# Altium schematic symbol library Transceiver.SchLib: 6 symbols
Pins are listed as number, name and electrical type; pins without a type are passive.

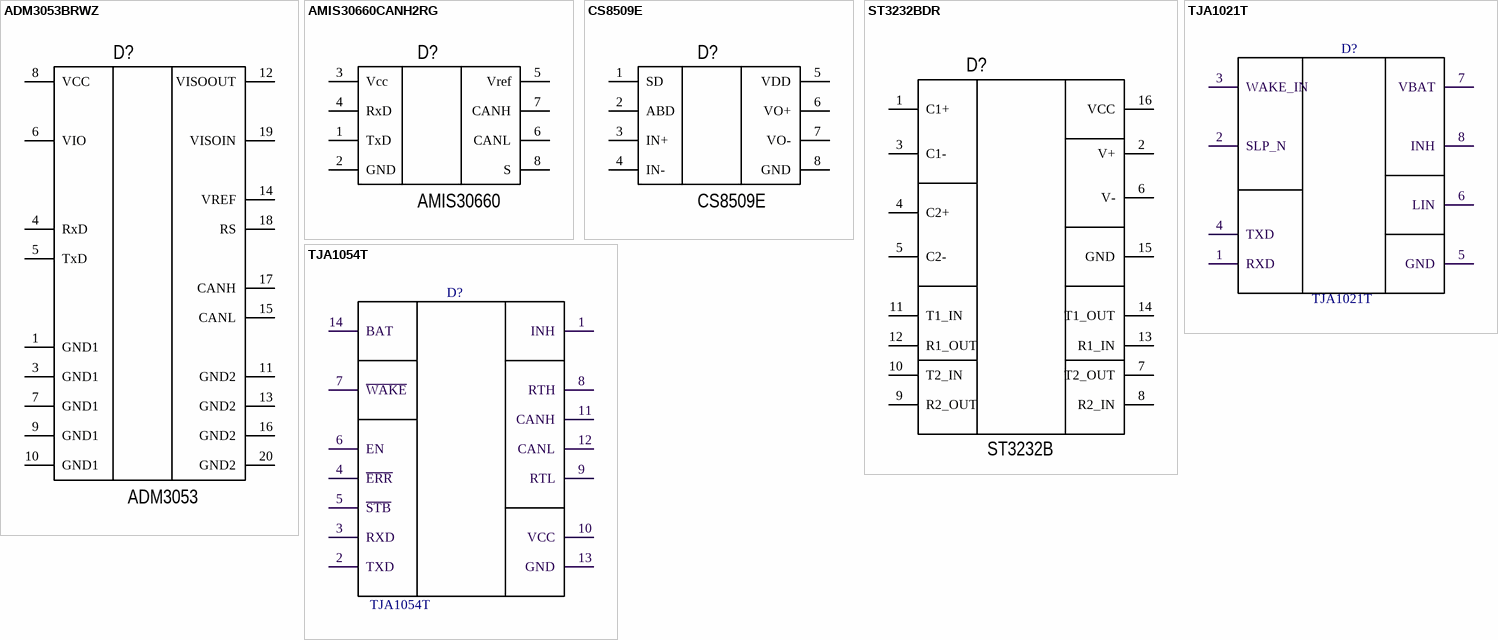
[diagram p0: symbols ADM3053BRWZ to TJA1054T]

## ADM3053BRWZ
designator D?, comment ADM3053
1/1 Transceiver, Isolated - CAN 20-SOIC; Manufacture: Analog Devices Inc.; Model: ADM3053BRWZ; Name: CAN трансивер; Case: 20-SOIC; HelpURL: https://www.digikey.com/en/products/detail/analog-devices-inc/ADM3053BRWZ/2709332; Value: ADM3053
footprint 20-SOIC (0.295", 7.50mm Width)
pins: 1 GND1, 3 GND1, 4 RxD, 5 TxD, 6 VIO, 7 GND1, 8 VCC, 9 GND1, 10 GND1, 11 GND2, 12 VISOOUT, 13 GND2, 14 VREF, 15 CANL, 16 GND2, 17 CANH, 18 RS, 19 VISOIN, 20 GND2

## AMIS30660CANH2RG
designator D?, comment AMIS30660
CAN transceiver; Manufacture: ON Semiconductor; Name: CAN трансивер; Case: SOIC-8; HelpURL: https://www.digikey.com/en/products/detail/on-semiconductor/AMIS30660CANH2RG/1914826; Value: AMIS30660; Model: AMIS30660
footprint 8-SOIC (0.154", 3.90mm Width) (SOIC, 8-Leads, Body 4,90x3,90mm, Pitch 1,27mm, IPC Medium Density)
pins: 1 TxD, 2 GND, 3 Vcc, 4 RxD, 5 Vref, 6 CANL, 7 CANH, 8 S

## CS8509E
designator D?
CAN transceiver; Name: Аудио усилитель; Case: SOIC-8; HelpURL: http://www.szczkjgs.com/UploadFiles/fujian/3783/CS8509.pdf; Value: CS8509E; Model: CS8509E
footprint 8-SOIC (0.154", 3.90mm Width) (SOIC, 8-Leads, Body 4,90x3,90mm, Pitch 1,27mm, IPC Medium Density)
pins: 1 SD, 2 ABD, 3 IN+, 4 IN-, 5 VDD, 6 VO+, 7 VO-, 8 GND

## ST3232BDR
designator D?, comment ST3232B
2/2 Transceiver Full RS232 16-SO; Manufacture: STMicroelectronics; Model: ST3232BDR; Name: Трансивер RS232; Case: 16-SO; HelpURL: https://www.digikey.com/en/products/detail/stmicroelectronics/ST3232BDR/1039244; Value: ST3232B
footprint 16-SO (NS) (NS (R-PDSO-G16))
footprint 16-SOIC (DW) (16-SOWB)(SO16L) (DW0016A)
footprint 16-TSSOP
pins: 1 C1+ "Вход", 2 V+ "Вход", 3 C1- "Вход", 4 C2+ "Вход", 5 C2- "Вход", 6 V- "Вход", 7 T2_OUT "Вход", 8 R2_IN "Вход", 9 R2_OUT "Вход", 10 T2_IN "Вход", 11 T1_IN "Вход", 12 R1_OUT "Вход", 13 R1_IN "Вход", 14 T1_OUT "Вход", 15 GND, 16 VCC

## TJA1021T
designator D?
LIN transceiver; Manufacture: NXP USA Inc.; Model: TJA1021T/10/C,118; Name: LIN трансивер; Case: 8-SOIC (0.154", 3.90mm Width); HelpURL: https://www.digikey.com/product-detail/en/nxp-usa-inc/TJA1021T-10-C118/568-4643-2-ND/1973465; Value: TJA1021T
footprint 8-SOIC (0.154", 3.90mm Width) (SOIC, 8-Leads, Body 4,90x3,90mm, Pitch 1,27mm, IPC Medium Density)
pins: 1 RXD "Вход", 2 SLP_N "Вход", 3 WAKE_IN "Вход", 4 TXD "Вход", 5 GND "Вход", 6 LIN "Вход", 7 VBAT "Вход", 8 INH "Вход"

## TJA1054T
designator D?
CAN transceiver; Manufacture: NXP USA Inc.; Model: TJA1054T/N1M518-ND; Name: CAN трансивер; Case: 14-SOIC (0.154", 3.90mm Width); HelpURL: https://www.digikey.com/product-detail/en/nxp-usa-inc/TJA1054T-N1M518/TJA1054T-N1M518-ND/4058802; Value: TJA1054T
footprint 14-SOIC (0.154", 3.90mm Width) - duplicate (SOIC, 14-Leads, Body 8,65x3,90mm, Pitch 1,27mm, IPC Medium Density)
pins: 1 INH "Вход", 2 TXD "Вход", 3 RXD "Вход", 4 ~{ERR} "Вход", 5 ~{STB} "Вход", 6 EN "Вход", 7 ~{WAKE} "Вход", 8 RTH "Вход", 9 RTL "Вход", 10 VCC "Вход", 11 CANH "Вход", 12 CANL "Вход", 13 GND "Вход", 14 BAT "Вход"